# EAGLE library part 18-1 (library J-CylConn)
Amphenol: 97-3100A-18-1S RECEPTACLE WALL FLANGED 10POS AMPH18-1S 97-3100A-18-1P RECEPTACLE WALL FLANGED 10POS AMPH18-1P 97-3055-120-18002 ADAPTER SHELL SZ18 TO 1/2MNPT 97-3102A-18-1S RECEPTACLE BOX FLANGED 10POS AMPH18-1S 97-3102A-18-1P RECEPTACLE BOX FLANGED 10POS AMPH18-1P 9760-18 RECEPTICAL FREE HANGING CAP SZ18 97-3106A-18-1P PLUG FREE HANGING 10POS AMPH18-1P 97-3106A-18-1S PLUG FREE HANGING 10POS AMPH18-1S 9760-18P PLUG FREE HANGING CAP SZ18 9767-18-6 SHELL STRAIGHT CABLE CLAMP OD11/32 SZ18 9767-18-8 SHELL STRAIGHT CABLE CLAMP OD7/16 SZ18 9767-18-10 SHELL STRAIGHT CABLE CLAMP OD9/16 SZ18 MS3106F-18-1S is an environmental MS-5015 Class F rated verison of 97-3106A-18-1S however I can't find the cable OD like the 9767 water resistant shell
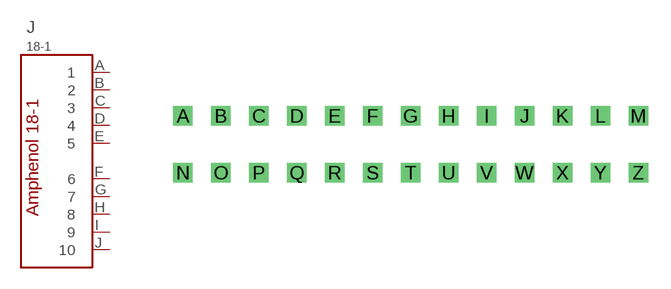
[diagram p1: symbol with the pads of ALPHA; footprint ALPHA]

Designator prefix J

## 18-1  [ALPHA]
A  1
B  2
C  3
D  4
E  5
F  6
G  7
H  8
I  9
J  10

## Footprint ALPHA (pad centres in mm)
some parts like amphenol use letters on connectors
drill 0.8 square: A -11.43,5.08; B -8.89,5.08; C -6.35,5.08; D -3.81,5.08; E -1.27,5.08; F 1.27,5.08; G 3.81,5.08; H 6.35,5.08; I 8.89,5.08; J 11.43,5.08; K 13.97,5.08; L 16.51,5.08; M 19.05,5.08; N -11.43,1.27; O -8.89,1.27; P -6.35,1.27; Q -3.81,1.27; R -1.27,1.27; S 1.27,1.27; T 3.81,1.27; U 6.35,1.27; V 8.89,1.27; W 11.43,1.27; X 13.97,1.27; Y 16.51,1.27; Z 19.05,1.27